# Altium footprint library semtech.PcbLib: 62 footprints (part 2 of 4)
Each footprint in its own frame and in the unit in brackets; x right, y up, seen from the top. Pads: shape width x height; smd on the part's side, far side on the other; paste and mask are expansions set on the pad; w line width, h text height; cw(c..) or ccw(c..) is an arc to the next point about the centre after c.
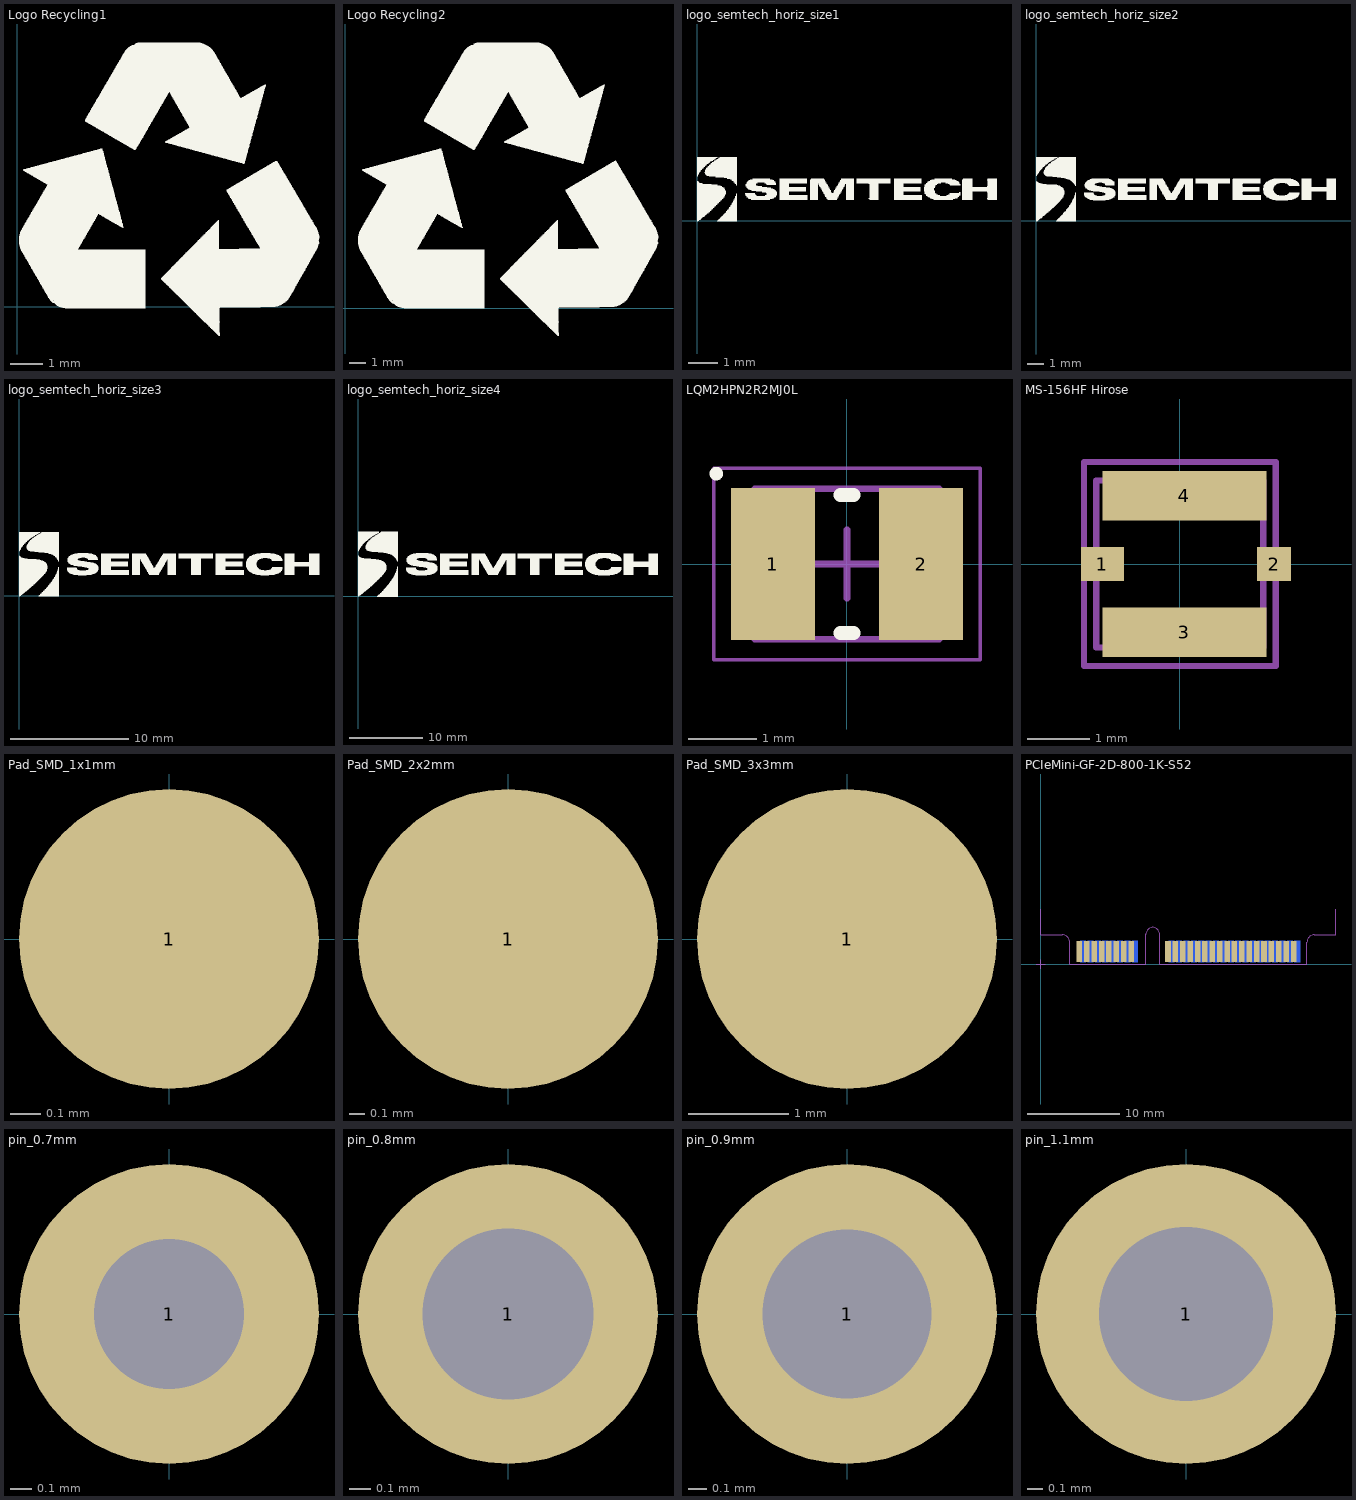
[diagram p1: the footprints below, top view; thin cyan lines are the x and y axes]

## Logo Recycling1 [mm] "Logo Recycling1"
height 0.1
Top Overlay:
  drawing of 3302 lines, arcs and shapes, not listed
3D body: height 10, standoff 1, extent -0.05,-0.05 0.05,0.05

## Logo Recycling2 [mm] "Logo Recycling2"
height 0.1
Top Overlay:
  drawing of 3309 lines, arcs and shapes, not listed
3D body: height 10, standoff 1, extent -0.05,-0.05 0.05,0.05

## logo_semtech_horiz_size1 [mm] "Logo semtech horizontal - size1 - S"
Top Overlay:
  drawing of 453 lines, arcs and shapes, not listed

## logo_semtech_horiz_size2 [mm] "Logo semtech horizontal - size2 - M"
Top Overlay:
  drawing of 790 lines, arcs and shapes, not listed

## logo_semtech_horiz_size3 [mm] "Logo semtech horizontal - size3 - L"
Top Overlay:
  drawing of 1137 lines, arcs and shapes, not listed

## logo_semtech_horiz_size4 [mm] "Logo semtech horizontal - size4 - XL"
Top Overlay:
  drawing of 1852 lines, arcs and shapes, not listed

## LQM2HPN2R2MJ0L [mm] "Chip Inductor, 2-Leads, Body 2.50x2.00mm, IPC Medium Density"
height 1.2
pads (2):
  rect 1.23x2.22 smd: 1(-1.085,0) 2(1.085,0)
Top Overlay:
  circle w0.1: c-1.912,1.322 r0.05
  lines w0.2: -0.1,-1.01 0.1,-1.01 ; -0.1,1.01 0.1,1.01
Mechanical 13:
  lines w0.1: -1.35,-1.1 1.35,-1.1 1.35,1.1 -1.35,1.1 -1.35,-1.1
Mechanical 15:
  lines w0.05: -1.95,-1.4 1.95,-1.4 1.95,1.4 -1.95,1.4 -1.95,-1.4
  lines w0.1: -0.5,0 0.5,0 ; 0,-0.5 0,0.5
3D body "LQM2HPN2R2MJ0L.step": height 1.2, standoff 0, extent -1.35,-1.1 1.35,1.1

## MS-156HF Hirose [mm] "Hirose MS-156HF receptacle - MS-156HF"
height 1.6
pads (4):
  rect 0.7x0.55 smd mask+0.05: 1(-1.25,0)
  rect 0.55x0.55 smd mask+0.05: 2(1.525,0)
  rect 2.65x0.8 smd mask+0.05: 3(0.075,-1.1) 4(0.075,1.1)
Mechanical 13:
  lines w0.1: -1.55,-1.65 -1.55,1.65 1.55,1.65 1.55,-1.65 -1.55,-1.65
Mechanical 15:
  lines w0.1: -1.35,-1.35 -1.35,1.35 1.35,1.35 1.35,-1.35 -1.35,-1.35
3D body: height 16, standoff 1.3, extent -1.35,-1.35 1.35,1.35

## Pad_SMD_1x1mm [mm] "Pad  SMD 1x1mm; No SolderMask, No PasteMask 1 Lead"
height 1
pads (1):
  round 1 smd paste-2 mask+0.05: 1(0,0)

## Pad_SMD_2x2mm [mm] "Pad  SMD 2x2mm; No SolderMask, No PasteMask 1 Lead"
height 1
pads (1):
  round 2 smd paste-2 mask+0.05: 1(0,0)

## Pad_SMD_3x3mm [mm] "Pad  SMD 3x3mm; No SolderMask, No PasteMask 1 Lead"
height 1
pads (1):
  round 3 smd paste-2 mask+0.05: 1(0,0)

## PCIeMini-GF-2D-800-1K-S52 [mm] "Golden finger, PCIeMini, Dual, Staggered, Pitch 0.8mm, 52-Position"
pads (52):
  rect 0.6x2.3 smd paste-0.9: 1(4.2,1.4) 3(5,1.4) 5(5.8,1.4) 7(6.6,1.4) 9(7.4,1.4) 11(8.2,1.4) 13(9,1.4) 15(9.8,1.4) 17(13.8,1.4) 19(14.6,1.4) 21(15.4,1.4) 23(16.2,1.4) 25(17,1.4) 27(17.8,1.4) 29(18.6,1.4) 31(19.4,1.4) 33(20.2,1.4) 35(21,1.4) 37(21.8,1.4) 39(22.6,1.4) 41(23.4,1.4) 43(24.2,1.4) 45(25,1.4) 47(25.8,1.4) 49(26.6,1.4) 51(27.4,1.4)
  rect 0.6x2.3 smd far side paste-0.9: 2(4.6,1.4) 4(5.4,1.4) 6(6.2,1.4) 8(7,1.4) 10(7.8,1.4) 12(8.6,1.4) 14(9.4,1.4) 16(10.2,1.4) 18(14.2,1.4) 20(15,1.4) 22(15.8,1.4) 24(16.6,1.4) 26(17.4,1.4) 28(18.2,1.4) 30(19,1.4) 32(19.8,1.4) 34(20.6,1.4) 36(21.4,1.4) 38(22.2,1.4) 40(23,1.4) 42(23.8,1.4) 44(24.6,1.4) 46(25.4,1.4) 48(26.2,1.4) 50(27,1.4) 52(27.8,1.4)
Top Solder:
  rectangle: 3.1,-0.05 28.9,2.65
Bottom Solder:
  rectangle: 3.1,-0.05 28.9,2.65
Mechanical 15:
  lines w0.1: -0.5,0 0.5,0 ; 0,-0.5 0,0.5 ; 0,6 0,3.2 2.35,3.2 cw(c2.35,2.4) 3.15,2.4 3.15,0 11.4,0 11.4,3.25 cw(c12.15,3.25) 12.9,3.25 12.9,0 28.85,0 28.85,2.4 cw(c29.65,2.4) 29.65,3.2 32,3.2 32,6
3D body: height 1.6, standoff 0.05, extent 3.9,0.25 4.5,2.55

## pin_0.7mm [mm] "Generic Pin 0.7mm; 1 Lead"
height 10
pads (1):
  round 1.4 / inner round 1.1 / far side round 1.4 hole 0.7 mask+0.02: 1(0,0)

## pin_0.8mm [mm] "Generic Pin 0.8mm; 1 Lead"
height 1
pads (1):
  round 1.4 / inner round 1.1 / far side round 1.4 hole 0.8 mask+0.025: 1(0,0)

## pin_0.9mm [mm] "Generic Pin 0.9mm; 1 Lead"
height 1
pads (1):
  round 1.6 / inner round 1.2 / far side round 1.6 hole 0.9 mask+0.025: 1(0,0)

## pin_1.1mm [mm] "Generic Pin 1.1mm; 1 Lead"
height 1
pads (1):
  round 1.9 hole 1.1 mask+0.05: 1(0,0)